# EAGLE library part SDMMC_SOCKET (library lib_stankus)
SD/MMC socket TME MCC-SD/2
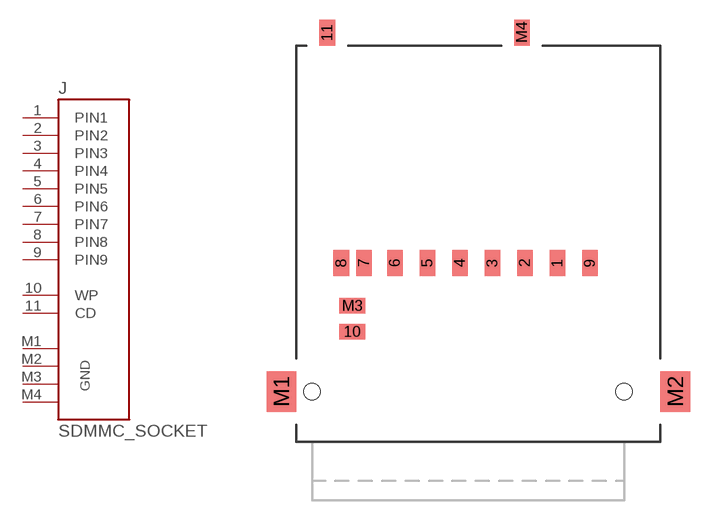
[diagram p22: symbol with the pads of SDMMC_SOCKET; footprint SDMMC_SOCKET]

Designator prefix J

## SDMMC_SOCKET  [SDMMC_SOCKET]
1  PIN1  pas
2  PIN2  pas
3  PIN3  pas
4  PIN4  pas
5  PIN5  pas
6  PIN6  pas
7  PIN7  pas
8  PIN8  pas
9  PIN9  pas
10  WP  pas
11  CD  pas
M1  GND  pas
M2  GND  pas
M3  GND  pas
M4  GND  pas

## Footprint SDMMC_SOCKET (pad centres in mm)
SD/MMC SOCKET
smd 1.2 x 2: 1 6.1,-0.22; 2 3.6,-0.22; 3 1.1,-0.22; 4 -1.4,-0.22; 5 -3.9,-0.22; 6 -6.4,-0.22; 7 -8.77,-0.22; 8 -10.52,-0.22; 9 8.6,-0.22; 11 -11.6,17.53; M4 3.38,17.53
smd 2 x 1.2: 10 -9.67,-5.52; M3 -9.67,-3.52
smd 2.3 x 3.1: M1 -15.12,-10.12; M2 15.18,-10.12
hole 1.3 at -12.77,-10.12
hole 1.3 at 11.23,-10.12